# Altium schematic symbol library arduino_voltage_monitor_shield.SchLib: 11 symbols
Pins are listed as number, name and electrical type; pins without a type are passive.

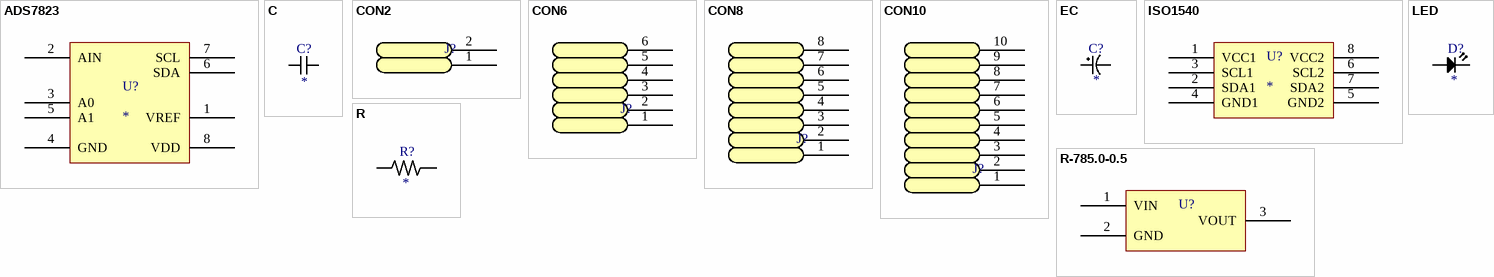
[diagram p0: symbols ADS7823 to R-785.0-0.5]

## ADS7823
designator U?
12-Bit, Sampling A/D Converter with I2C™ INTERFACE
footprint VSSOP-8_DGK
pins: 1 VREF, 2 AIN, 3 A0, 4 GND, 5 A1, 6 SDA, 7 SCL, 8 VDD

## C
designator C?
Non-polarized Capacitor; Value: *
footprint CAP1608L
pins: 1, 2

## CON2
designator J?  (value not drawn)
Generic Connector 2 Pin
footprint DG128-5.0-02P
pins: 1 "Generic Connector 2 Pin", 2 "Generic Connector 2 Pin"

## CON6
designator J?  (value not drawn)
Generic Connector 6 Pin
footprint PIN-HEADER-2.54-6P
pins: 1 "Generic Connector 2 Pin", 2 "Generic Connector 2 Pin", 3, 4, 5, 6

## CON8
designator J?  (value not drawn)
Generic Connector 8 Pin
footprint PIN-HEADER-2.54-8P
pins: 1 "Generic Connector 2 Pin", 2 "Generic Connector 2 Pin", 3, 4, 5, 6, 7, 8

## CON10
designator J?  (value not drawn)
Generic Connector 10 Pin
footprint PIN-HEADER-2.54-10P
pins: 1 "Generic Connector 2 Pin", 2 "Generic Connector 2 Pin", 3, 4, 5, 6, 7, 8, 9, 10

## EC
designator C?
Polarized Capacitor; Value: *
footprint ECAP-TANTAL-P
footprint ECAP-TANTAL-A
pins: 1, 2

## ISO1540
designator U?
ISO154x Low-Power Bidirectional I2C Isolators
footprint SOIC-8
pins: 1 VCC1, 2 SDA1, 3 SCL1, 4 GND1, 5 GND2, 6 SCL2, 7 SDA2, 8 VCC2

## LED
designator D?
Typical LED; Value: *
footprint LED1608L
pins: 1, 2

## R
designator R?
Resistor; Value: *
footprint RES1608L
pins: 1, 2

## R-785.0-0.5
designator U?  (value not drawn)
R-78xx-Series high efficiency switching regulators
footprint R-785.0-0.5
pins: 1 VIN, 2 GND, 3 VOUT